# EAGLE library part AMS00X (library AMS00x)
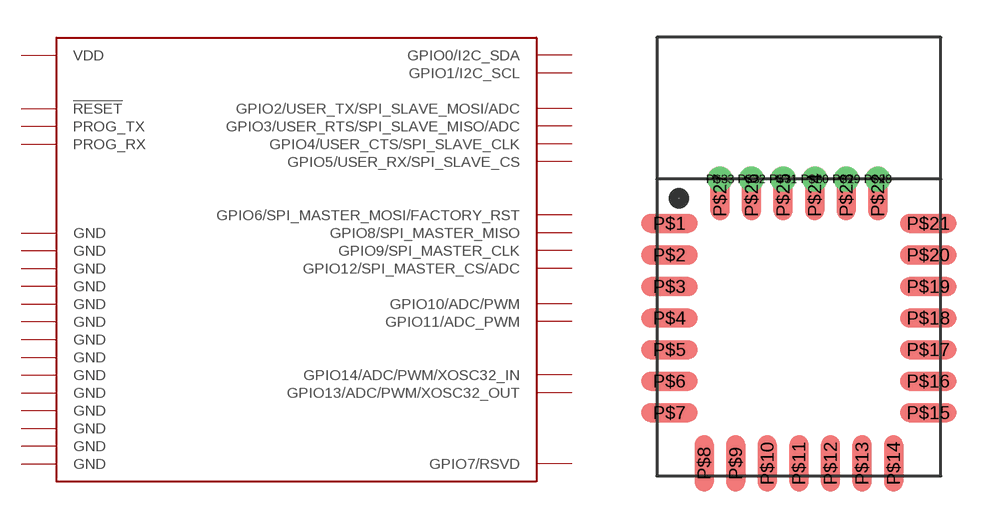
[diagram p0: symbol with the pads of AMS00X; footprint AMS00X]

Designator prefix -

## AMS00X  [AMS00X]
P$1  GND  sup
P$2  PROG_RX
P$3  PROG_TX
P$4  GPIO0/I2C_SDA
P$5  GPIO1/I2C_SCL
P$6  GPIO2/USER_TX/SPI_SLAVE_MOSI/ADC
P$7  GPIO3/USER_RTS/SPI_SLAVE_MISO/ADC
P$8  !RESET
P$9  GPIO4/USER_CTS/SPI_SLAVE_CLK
P$10  GPIO5/USER_RX/SPI_SLAVE_CS
P$11  GPIO6/SPI_MASTER_MOSI/FACTORY_RST
P$12  GPIO7/RSVD  nc
P$13  GPIO8/SPI_MASTER_MISO
P$14  GPIO9/SPI_MASTER_CLK
P$15  GPIO10/ADC/PWM
P$16  GPIO11/ADC_PWM
P$17  GPIO12/SPI_MASTER_CS/ADC
P$18  GPIO13/ADC/PWM/XOSC32_OUT
P$19  GND  sup
P$20  GPIO14/ADC/PWM/XOSC32_IN
P$21  VDD  sup
P$22  GND  sup
P$23  GND  sup
P$24  GND  sup
P$25  GND  sup
P$26  GND  sup
P$27  GND  sup
P$28  GND  sup
P$29  GND  sup
P$30  GND  sup
P$31  GND  sup
P$32  GND  sup
P$33  GND  sup

## Footprint AMS00X (pad centres in mm)
smd 2.286 x 0.762: P$1 0.508,10.16; P$2 0.508,8.89; P$3 0.508,7.62; P$4 0.508,6.35; P$5 0.508,5.08; P$6 0.508,3.81; P$7 0.508,2.54; P$15 10.922,2.54; P$16 10.922,3.81; P$17 10.922,5.08; P$18 10.922,6.35; P$19 10.922,7.62; P$20 10.922,8.89; P$21 10.922,10.16
smd 0.762 x 2.286: P$8 1.905,0.508; P$9 3.175,0.508; P$10 4.445,0.508; P$11 5.715,0.508; P$12 6.985,0.508; P$13 8.255,0.508; P$14 9.525,0.508
smd 0.762 x 2.032: P$22 8.89,11.303; P$23 7.62,11.303; P$24 6.35,11.303; P$25 5.08,11.303; P$26 3.81,11.303; P$27 2.54,11.303
drill 0.5 pad 1: P$28 8.89,11.938; P$29 7.62,11.938; P$30 6.35,11.938; P$31 5.08,11.938; P$32 3.81,11.938; P$33 2.54,11.938